# EAGLE library part LSF0102DC (library FaBo-LevelTranslator)
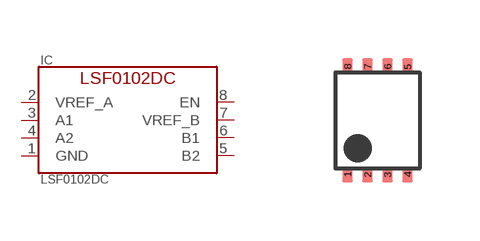
[diagram p12: symbol with the pads of VSSOP-8; footprint VSSOP-8]

Designator prefix IC

## LSF0102DC  [VSSOP-8]
1  GND
2  VREF_A
3  A1
4  A2
5  B2
6  B1
7  VREF_B
8  EN

## Footprint VSSOP-8 (pad centres in mm)
smd 0.27 x 0.4: 1 -0.75,-1.35; 2 -0.25,-1.35; 3 0.25,-1.35; 4 0.75,-1.35; 5 0.75,1.35; 6 0.25,1.35; 7 -0.25,1.35; 8 -0.75,1.35